# EAGLE library part 72309-8034BLF (library USB connector)
CONN RCPT USB2.0 TYPEA STACK R/A Manufacturer's datasheet <https://www.amphenol-icc.com/media/wysiwyg/files/drawing/72309.pdf?__cf_chl_jschl_tk__=8cbf212fa66673740dbc39504de323c7f0a8953f-1587979276-0-Af0yYlf5_rr8dOui6hUSXoTRuSV9sFZMyAZYAeWAVgutNJql2RiaVg9knqiT269YTTfx722-rp9-t3tykxbLYcwOWzmt6MyJqoyafHQnW1ovQ5fGt1eP1zyWO-cYWJz-SHKLk8bXfVZERdvzt11Eb0-5WN_STu3xmin0VEdDqkKXN4U-BZFs-YEi_2Hoey12qeB2hvgYpZG5Pw1yZyUg-jK_79NRLAuYXYHvFO0i_LcXGlc50pGmUiS2lLtc-WO8FDPHMCuG_gpXWO8nJV27-QDlQa9BnSTQK5MPW3FqpatNJPdAxylKUaAITjwJmASta2awNYD3sz5V93AkXr6LeofZpsJQ8F7FNE9CWjIkG0Ls6WxlebabUbtEf8RRQyIVjg>
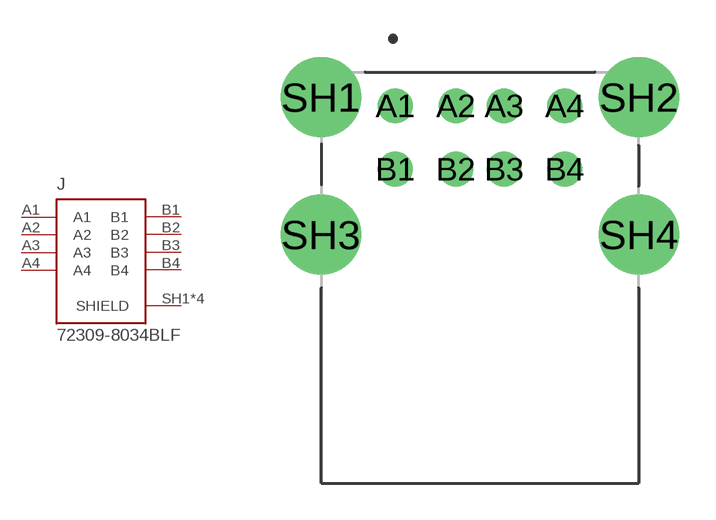
[diagram p7: symbol with the pads of 72309-8034BLF; footprint 72309-8034BLF]

Designator prefix J

## 72309-8034BLF (CREATED_BY: PCBLayout.com; DIGIKEY_PARTNO: 609-1040-ND; MANUFACTURER: Amphenol ICC (FCI); MPN: 72309-8034BLF)  [72309-8034BLF]
A1  A1  pas
A2  A2  pas
A3  A3  pas
A4  A4  pas
B1  B1  pas
B2  B2  pas
B3  B3  pas
B4  B4  pas
SH1  SHIELD  pas
SH2  SHIELD  pas
SH3  SHIELD  pas
SH4  SHIELD  pas

## Footprint 72309-8034BLF (pad centres in mm)
drill 0.92: A1 -3.5,5.33; A2 -1,5.33; A3 1,5.33; A4 3.5,5.33; B1 -3.5,2.71; B2 -1,2.71; B3 1,2.71; B4 3.5,2.71
drill 2.3: SH1 -6.57,5.68; SH2 6.57,5.68; SH3 -6.57,0; SH4 6.57,0